# Altium schematic symbol library Cap_Tantalum_Sch.SchLib: 1 symbol
Pins are listed as number, name and electrical type; pins without a type are passive.

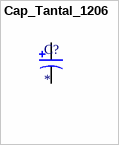
[diagram p0: symbol Cap_Tantal_1206]

## Cap_Tantal_1206
designator C?
CAP TANTAL 1206; Capacitance: *; Voltage: *; ESR: *; Tolerance: *; Package: 1206; ComponentLink1Description: Link
footprint CAP POL 1206_3216 (Molded Capacitor, 2-Leads, Body 3.20x1.6mm, IPC Medium Density)
pins: 1 +, 2 -